# Altium schematic symbol library Crystal_8MHz_20pF_Sch.SchLib: 1 symbol
Pins are listed as number, name and electrical type; pins without a type are passive.

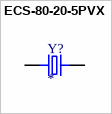
[diagram p0: symbol ECS-80-20-5PVX]

## ECS-80-20-5PVX
designator Y?
SMD Quartz crystal; MP: ECS-80-20-5PVX; Package: None; Price: None; Value: *; Availability: Unavailable
footprint XTAL_ECS-80-20-5PVX
pins: 1, 2